# Altium integrated library Analog Devices Data Converters Digital-to-Analog Converters.IntLib: 2231 symbols (part 29 of 181)
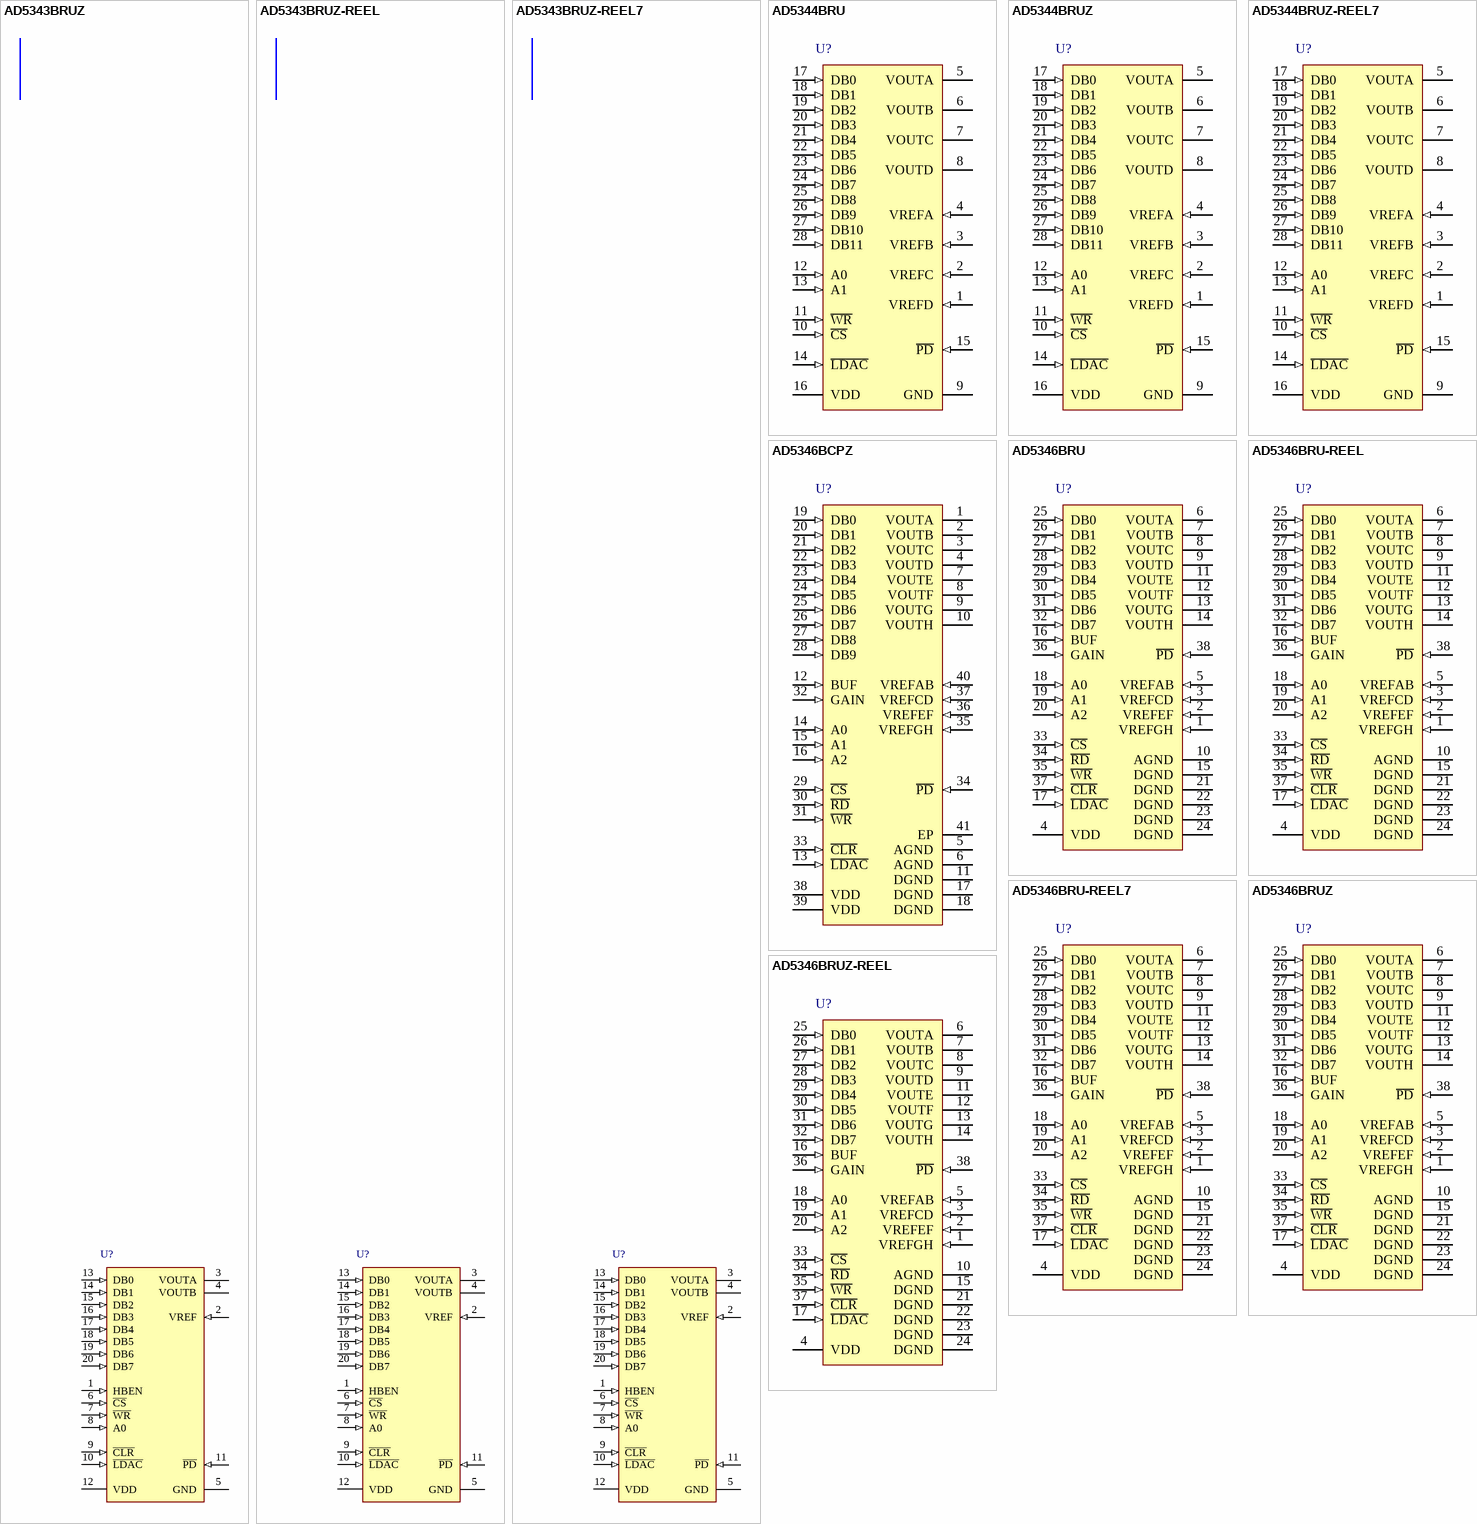
[diagram p142: symbols AD5343BRUZ to AD5346BRUZ-REEL]

## AD5343BRUZ
designator U?
Dual 12-Bit Digital-to-Analog Converter, 2.5 to 5.5 V, 230 uA, -40 to +105 degC, RU-20, Pb-Free, Tube; Generic Part Number: AD5343; Manufacturer: Analog Devices; PartNumber: AD5343BRUZ; # DAC Outputs: 2; Max V+: 5.5V; Op Pwr Diss: 2.3mW; Resolution (Bits): 12; Settling Time: 8µs; Single Supply: Yes; DatasheetVersion: Rev.0; PackageVersion: 2000; PackageReference: RU-20; PackageDescription: 20-Lead Thin Shrink Small Outline Package [TSSOP]; Supplier 1: Digi-Key; Supplier Part Number 1: AD5343BRUZ-ND; Supplier 2: Newark; Supplier Part Number 2: 59K3993; Supplier 3: Mouser; Supplier Part Number 3: 584-AD5343BRUZ; Packing: Tube; RoHS: Y; Mounting Technology: Surface Mount; Code_JEDEC: MO-153AC; ComponentLink1Description: Manufacturer URL; ComponentLink1URL: http://www.analog.com/en/index.html; ComponentLink2Description: Datasheet; ComponentLink2URL: http://www.analog.com/static/imported-files/data_sheets/AD5332_5333_5342_5343.pdf; ComponentLink3Description: Package Specification; ComponentLink3URL: http://www.analog.com/static/imported-files/packages/364515793657813558433715854054607941441RU20.pdf; ComponentLink4Description: Product URL; ComponentLink4URL: http://www.analog.com/en/digital-to-analog-converters/da-converters/ad5343/products/product.html
footprint RU-20_N (TSOP, 20-Leads, Body 6.5x4.4mm, Pitch 0.65mm, IPC Medium Density)
footprint RU-20_L (TSOP, 20-Leads, Body 6.5x4.4mm, Pitch 0.65mm, IPC High Density)
footprint RU-20_M (TSOP, 20-Leads, Body 6.5x4.4mm, Pitch 0.65mm, IPC Low Density)
pins: 1 HBEN (in) "This pin is used when writing to the device to determine if data is written to the high byte register or the low byte register.", 2 VREF (in) "Unbuffered reference input for both DACs.", 3 VOUTA (hiz) "Output of DAC A. Buffered output with rail-to-rail operation.", 4 VOUTB (hiz) "Output of DAC B. Buffered output with rail-to-rail operation.", 5 GND (power) "Ground reference point for all circuitry on the part.", 6 ~{CS} (in) "Active Low Chip Select Input. This is used in conjunction with W\R\ to write data to the parallel interface.", 7 ~{WR} (in) "Active Low Write Input. This is used in conjunction with C\S\ to write data to the parallel interface.", 8 A0 (in) "Address pin for selecting between DAC A and DAC B.", 9 ~{CLR} (in) "Asynchronous active low control input that clears all input registers and DAC registers to zeros.", 10 ~{LDAC} (in) "Active low control input that updates the DAC registers with the contents of the input registers. This allows all DAC outputs to be simultaneously updated.", 11 ~{PD} (in) "Power-Down Pin. This active low control pin puts all DACs into power-down mode.", 12 VDD (power) "Power Supply Pin. These parts can operate from 2.5 V to 5.5 V and the supply should be decoupled with a 10 uF capacitor in parallel with a 0.1 uF capacitor to GND.", 13 DB0 (in) "Parallel Data Input", 14 DB1 (in) "Parallel Data Input", 15 DB2 (in) "Parallel Data Input", 16 DB3 (in) "Parallel Data Input", 17 DB4 (in) "Parallel Data Input", 18 DB5 (in) "Parallel Data Input", 19 DB6 (in) "Parallel Data Input", 20 DB7 (in) "Parallel Data Input. DB7 is the MSB of these eight bits."

## AD5343BRUZ-REEL
designator U?
Dual 12-Bit Digital-to-Analog Converter, 2.5 to 5.5 V, 230 uA, -40 to +105 degC, RU-20, Pb-Free, Reel; Generic Part Number: AD5343; Manufacturer: Analog Devices; PartNumber: AD5343BRUZ-REEL; # DAC Outputs: 2; Max V+: 5.5V; Op Pwr Diss: 2.3mW; Resolution (Bits): 12; Settling Time: 8µs; Single Supply: Yes; DatasheetVersion: Rev.0; PackageVersion: 2000; PackageReference: RU-20; PackageDescription: 20-Lead Thin Shrink Small Outline Package [TSSOP]; Supplier 1: Digi-Key; Supplier Part Number 1: AD5343BRUZ-REEL-ND; Supplier 2: Mouser; Supplier Part Number 2: 584-AD5343BRUZ-R; Packing: Reel; RoHS: Y; Mounting Technology: Surface Mount; Code_JEDEC: MO-153AC; ComponentLink1Description: Manufacturer URL; ComponentLink1URL: http://www.analog.com/en/index.html; ComponentLink2Description: Datasheet; ComponentLink2URL: http://www.analog.com/static/imported-files/data_sheets/AD5332_5333_5342_5343.pdf; ComponentLink3Description: Package Specification; ComponentLink3URL: http://www.analog.com/static/imported-files/packages/364515793657813558433715854054607941441RU20.pdf; ComponentLink4Description: Product URL; ComponentLink4URL: http://www.analog.com/en/digital-to-analog-converters/da-converters/ad5343/products/product.html
footprint RU-20_N (TSOP, 20-Leads, Body 6.5x4.4mm, Pitch 0.65mm, IPC Medium Density)
footprint RU-20_L (TSOP, 20-Leads, Body 6.5x4.4mm, Pitch 0.65mm, IPC High Density)
footprint RU-20_M (TSOP, 20-Leads, Body 6.5x4.4mm, Pitch 0.65mm, IPC Low Density)
pins: 1 HBEN (in) "This pin is used when writing to the device to determine if data is written to the high byte register or the low byte register.", 2 VREF (in) "Unbuffered reference input for both DACs.", 3 VOUTA (hiz) "Output of DAC A. Buffered output with rail-to-rail operation.", 4 VOUTB (hiz) "Output of DAC B. Buffered output with rail-to-rail operation.", 5 GND (power) "Ground reference point for all circuitry on the part.", 6 ~{CS} (in) "Active Low Chip Select Input. This is used in conjunction with W\R\ to write data to the parallel interface.", 7 ~{WR} (in) "Active Low Write Input. This is used in conjunction with C\S\ to write data to the parallel interface.", 8 A0 (in) "Address pin for selecting between DAC A and DAC B.", 9 ~{CLR} (in) "Asynchronous active low control input that clears all input registers and DAC registers to zeros.", 10 ~{LDAC} (in) "Active low control input that updates the DAC registers with the contents of the input registers. This allows all DAC outputs to be simultaneously updated.", 11 ~{PD} (in) "Power-Down Pin. This active low control pin puts all DACs into power-down mode.", 12 VDD (power) "Power Supply Pin. These parts can operate from 2.5 V to 5.5 V and the supply should be decoupled with a 10 uF capacitor in parallel with a 0.1 uF capacitor to GND.", 13 DB0 (in) "Parallel Data Input", 14 DB1 (in) "Parallel Data Input", 15 DB2 (in) "Parallel Data Input", 16 DB3 (in) "Parallel Data Input", 17 DB4 (in) "Parallel Data Input", 18 DB5 (in) "Parallel Data Input", 19 DB6 (in) "Parallel Data Input", 20 DB7 (in) "Parallel Data Input. DB7 is the MSB of these eight bits."

## AD5343BRUZ-REEL7
designator U?
Dual 12-Bit Digital-to-Analog Converter, 2.5 to 5.5 V, 230 uA, -40 to +105 degC, RU-20, Pb-Free, Reel; Generic Part Number: AD5343; Manufacturer: Analog Devices; PartNumber: AD5343BRUZ-REEL7; # DAC Outputs: 2; Max V+: 5.5V; Op Pwr Diss: 2.3mW; Resolution (Bits): 12; Settling Time: 8µs; Single Supply: Yes; DatasheetVersion: Rev.0; PackageVersion: 2000; PackageReference: RU-20; PackageDescription: 20-Lead Thin Shrink Small Outline Package [TSSOP]; Supplier 1: Digi-Key; Supplier Part Number 1: AD5343BRUZ-REEL7-ND; Supplier 2: Mouser; Supplier Part Number 2: 584-AD5343BRUZ-R7; Packing: Reel; RoHS: Y; Mounting Technology: Surface Mount; Code_JEDEC: MO-153AC; ComponentLink1Description: Manufacturer URL; ComponentLink1URL: http://www.analog.com/en/index.html; ComponentLink2Description: Datasheet; ComponentLink2URL: http://www.analog.com/static/imported-files/data_sheets/AD5332_5333_5342_5343.pdf; ComponentLink3Description: Package Specification; ComponentLink3URL: http://www.analog.com/static/imported-files/packages/364515793657813558433715854054607941441RU20.pdf; ComponentLink4Description: Product URL; ComponentLink4URL: http://www.analog.com/en/digital-to-analog-converters/da-converters/ad5343/products/product.html
footprint RU-20_N (TSOP, 20-Leads, Body 6.5x4.4mm, Pitch 0.65mm, IPC Medium Density)
footprint RU-20_L (TSOP, 20-Leads, Body 6.5x4.4mm, Pitch 0.65mm, IPC High Density)
footprint RU-20_M (TSOP, 20-Leads, Body 6.5x4.4mm, Pitch 0.65mm, IPC Low Density)
pins: 1 HBEN (in) "This pin is used when writing to the device to determine if data is written to the high byte register or the low byte register.", 2 VREF (in) "Unbuffered reference input for both DACs.", 3 VOUTA (hiz) "Output of DAC A. Buffered output with rail-to-rail operation.", 4 VOUTB (hiz) "Output of DAC B. Buffered output with rail-to-rail operation.", 5 GND (power) "Ground reference point for all circuitry on the part.", 6 ~{CS} (in) "Active Low Chip Select Input. This is used in conjunction with W\R\ to write data to the parallel interface.", 7 ~{WR} (in) "Active Low Write Input. This is used in conjunction with C\S\ to write data to the parallel interface.", 8 A0 (in) "Address pin for selecting between DAC A and DAC B.", 9 ~{CLR} (in) "Asynchronous active low control input that clears all input registers and DAC registers to zeros.", 10 ~{LDAC} (in) "Active low control input that updates the DAC registers with the contents of the input registers. This allows all DAC outputs to be simultaneously updated.", 11 ~{PD} (in) "Power-Down Pin. This active low control pin puts all DACs into power-down mode.", 12 VDD (power) "Power Supply Pin. These parts can operate from 2.5 V to 5.5 V and the supply should be decoupled with a 10 uF capacitor in parallel with a 0.1 uF capacitor to GND.", 13 DB0 (in) "Parallel Data Input", 14 DB1 (in) "Parallel Data Input", 15 DB2 (in) "Parallel Data Input", 16 DB3 (in) "Parallel Data Input", 17 DB4 (in) "Parallel Data Input", 18 DB5 (in) "Parallel Data Input", 19 DB6 (in) "Parallel Data Input", 20 DB7 (in) "Parallel Data Input. DB7 is the MSB of these eight bits."

## AD5344BRU
designator U?
Quad 12-Bit Digital-to-Analog Converter, 2.5 to 5.5 V, -40 to +105 degC, RU-28, Tube; Generic Part Number: AD5344; Manufacturer: Analog Devices; PartNumber: AD5344BRU; # DAC Outputs: 4; Max V+: 5.5V; Op Pwr Diss: 4.5mW; Resolution (Bits): 12; Settling Time: 8µs; Single Supply: Yes; DatasheetVersion: Rev.0; PackageVersion: 2005; PackageReference: RU-28; PackageDescription: 28-Lead Thin Shrink Small Outline Package [TSSOP]; Supplier 1: Digi-Key; Supplier Part Number 1: AD5344BRU-ND; Supplier 2: Mouser; Supplier Part Number 2: 584-AD5344BRU; Packing: Tube; RoHS: N; Mounting Technology: Surface Mount; Code_JEDEC: MO-153-AE; ComponentLink1Description: Manufacturer URL; ComponentLink1URL: http://www.analog.com/en/index.html; ComponentLink2Description: Datasheet; ComponentLink2URL: http://www.analog.com/static/imported-files/data_sheets/AD5334_5335_5336_5344.pdf; ComponentLink3Description: Package Specification; ComponentLink3URL: http://www.analog.com/static/imported-files/packages/249854663RU_28.pdf; ComponentLink4Description: Product URL; ComponentLink4URL: http://www.analog.com/en/digital-to-analog-converters/da-converters/ad5344/products/product.html
footprint RU-28_N (TSOP, 28-Leads, Body 9.7x4.4mm, Pitch 0.65mm, IPC Medium Density)
footprint RU-28_L (TSOP, 28-Leads, Body 9.7x4.4mm, Pitch 0.65mm, IPC High Density)
footprint RU-28_M (TSOP, 28-Leads, Body 9.7x4.4mm, Pitch 0.65mm, IPC Low Density)
pins: 1 VREFD (in) "Unbuffered Reference Input for DAC D.", 2 VREFC (in) "Unbuffered Reference Input for DAC C.", 3 VREFB (in) "Unbuffered Reference Input for DAC B.", 4 VREFA (in) "Unbuffered Reference Input for DAC A.", 5 VOUTA (hiz) "Output of DAC A. Buffered output with rail-to-rail operation.", 6 VOUTB (hiz) "Output of DAC B. Buffered output with rail-to-rail operation.", 7 VOUTC (hiz) "Output of DAC C. Buffered output with rail-to-rail operation.", 8 VOUTD (hiz) "Output of DAC D. Buffered output with rail-to-rail operation.", 9 GND (power) "Ground Reference Point for All Circuitry on the Part.", 10 ~{CS} (in) "Active Low Chip Select Input. This is used in conjunction with W\R\ to write data to the parallel interface.", 11 ~{WR} (in) "Active Low Write Input. This is used in conjunction with C\S\ to write data to the parallel interface.", 12 A0 (in) "LSB Address Pin for Selecting which DAC Is to Be Written to.", 13 A1 (in) "MSB Address Pin for Selecting which DAC Is to Be Written to.", 14 ~{LDAC} (in) "Active low control input that updates the DAC registers with the contents of the input registers. This allows all DAC outputs to be simultaneously updated.", 15 ~{PD} (in) "Power-Down Pin. This active low control pin puts all DACs into power-down mode.", 16 VDD (power) "Power Supply Pin. These parts can operate from 2.5 V to 5.5 V and the supply should be decoupled with a 10 uF capacitor in parallel with a 0.1 uF capacitor to GND.", 17 DB0 (in) "Parallel Data Input.", 18 DB1 (in) "Parallel Data Input.", 19 DB2 (in) "Parallel Data Input.", 20 DB3 (in) "Parallel Data Input.", 21 DB4 (in) "Parallel Data Input.", 22 DB5 (in) "Parallel Data Input.", 23 DB6 (in) "Parallel Data Input.", 24 DB7 (in) "Parallel Data Input.", 25 DB8 (in) "Parallel Data Input.", 26 DB9 (in) "Parallel Data Input.", 27 DB10 (in) "Parallel Data Input.", 28 DB11 (in) "Parallel Data Input. DB11 is the MSB of these 12 bits."

## AD5344BRUZ
designator U?
Quad 12-Bit Digital-to-Analog Converter, 2.5 to 5.5 V, -40 to +105 degC, RU-28, Pb-Free, Tube; Generic Part Number: AD5344; Manufacturer: Analog Devices; PartNumber: AD5344BRUZ; # DAC Outputs: 4; Max V+: 5.5V; Op Pwr Diss: 4.5mW; Resolution (Bits): 12; Settling Time: 8µs; Single Supply: Yes; DatasheetVersion: Rev.0; PackageVersion: 2005; PackageReference: RU-28; PackageDescription: 28-Lead Thin Shrink Small Outline Package [TSSOP]; Supplier 1: Digi-Key; Supplier Part Number 1: AD5344BRUZ-ND; Supplier 2: Farnell; Supplier Part Number 2: 9604200; Supplier 3: Newark; Supplier Part Number 3: 19M0818; Supplier 4: Mouser; Supplier Part Number 4: 584-AD5344BRUZ; Packing: Tube; RoHS: Y; Mounting Technology: Surface Mount; Code_JEDEC: MO-153-AE; ComponentLink1Description: Manufacturer URL; ComponentLink1URL: http://www.analog.com/en/index.html; ComponentLink2Description: Datasheet; ComponentLink2URL: http://www.analog.com/static/imported-files/data_sheets/AD5334_5335_5336_5344.pdf; ComponentLink3Description: Package Specification; ComponentLink3URL: http://www.analog.com/static/imported-files/packages/249854663RU_28.pdf; ComponentLink4Description: Product URL; ComponentLink4URL: http://www.analog.com/en/digital-to-analog-converters/da-converters/ad5344/products/product.html
footprint RU-28_N (TSOP, 28-Leads, Body 9.7x4.4mm, Pitch 0.65mm, IPC Medium Density)
footprint RU-28_L (TSOP, 28-Leads, Body 9.7x4.4mm, Pitch 0.65mm, IPC High Density)
footprint RU-28_M (TSOP, 28-Leads, Body 9.7x4.4mm, Pitch 0.65mm, IPC Low Density)
pins: 1 VREFD (in) "Unbuffered Reference Input for DAC D.", 2 VREFC (in) "Unbuffered Reference Input for DAC C.", 3 VREFB (in) "Unbuffered Reference Input for DAC B.", 4 VREFA (in) "Unbuffered Reference Input for DAC A.", 5 VOUTA (hiz) "Output of DAC A. Buffered output with rail-to-rail operation.", 6 VOUTB (hiz) "Output of DAC B. Buffered output with rail-to-rail operation.", 7 VOUTC (hiz) "Output of DAC C. Buffered output with rail-to-rail operation.", 8 VOUTD (hiz) "Output of DAC D. Buffered output with rail-to-rail operation.", 9 GND (power) "Ground Reference Point for All Circuitry on the Part.", 10 ~{CS} (in) "Active Low Chip Select Input. This is used in conjunction with W\R\ to write data to the parallel interface.", 11 ~{WR} (in) "Active Low Write Input. This is used in conjunction with C\S\ to write data to the parallel interface.", 12 A0 (in) "LSB Address Pin for Selecting which DAC Is to Be Written to.", 13 A1 (in) "MSB Address Pin for Selecting which DAC Is to Be Written to.", 14 ~{LDAC} (in) "Active low control input that updates the DAC registers with the contents of the input registers. This allows all DAC outputs to be simultaneously updated.", 15 ~{PD} (in) "Power-Down Pin. This active low control pin puts all DACs into power-down mode.", 16 VDD (power) "Power Supply Pin. These parts can operate from 2.5 V to 5.5 V and the supply should be decoupled with a 10 uF capacitor in parallel with a 0.1 uF capacitor to GND.", 17 DB0 (in) "Parallel Data Input.", 18 DB1 (in) "Parallel Data Input.", 19 DB2 (in) "Parallel Data Input.", 20 DB3 (in) "Parallel Data Input.", 21 DB4 (in) "Parallel Data Input.", 22 DB5 (in) "Parallel Data Input.", 23 DB6 (in) "Parallel Data Input.", 24 DB7 (in) "Parallel Data Input.", 25 DB8 (in) "Parallel Data Input.", 26 DB9 (in) "Parallel Data Input.", 27 DB10 (in) "Parallel Data Input.", 28 DB11 (in) "Parallel Data Input. DB11 is the MSB of these 12 bits."

## AD5344BRUZ-REEL7
designator U?
Quad 12-Bit Digital-to-Analog Converter, 2.5 to 5.5 V, -40 to +105 degC, RU-28, Pb-Free, Reel; Generic Part Number: AD5344; Manufacturer: Analog Devices; PartNumber: AD5344BRUZ-REEL7; # DAC Outputs: 4; Max V+: 5.5V; Op Pwr Diss: 4.5mW; Resolution (Bits): 12; Settling Time: 8µs; Single Supply: Yes; DatasheetVersion: Rev.0; PackageVersion: 2005; PackageReference: RU-28; PackageDescription: 28-Lead Thin Shrink Small Outline Package [TSSOP]; Supplier 1: Digi-Key; Supplier Part Number 1: AD5344BRUZ-REEL7-ND; Supplier 2: Mouser; Supplier Part Number 2: 584-AD5344BRUZ-R7; Packing: Reel; RoHS: Y; Mounting Technology: Surface Mount; Code_JEDEC: MO-153-AE; ComponentLink1Description: Manufacturer URL; ComponentLink1URL: http://www.analog.com/en/index.html; ComponentLink2Description: Datasheet; ComponentLink2URL: http://www.analog.com/static/imported-files/data_sheets/AD5334_5335_5336_5344.pdf; ComponentLink3Description: Package Specification; ComponentLink3URL: http://www.analog.com/static/imported-files/packages/249854663RU_28.pdf; ComponentLink4Description: Product URL; ComponentLink4URL: http://www.analog.com/en/digital-to-analog-converters/da-converters/ad5344/products/product.html
footprint RU-28_N (TSOP, 28-Leads, Body 9.7x4.4mm, Pitch 0.65mm, IPC Medium Density)
footprint RU-28_L (TSOP, 28-Leads, Body 9.7x4.4mm, Pitch 0.65mm, IPC High Density)
footprint RU-28_M (TSOP, 28-Leads, Body 9.7x4.4mm, Pitch 0.65mm, IPC Low Density)
pins: 1 VREFD (in) "Unbuffered Reference Input for DAC D.", 2 VREFC (in) "Unbuffered Reference Input for DAC C.", 3 VREFB (in) "Unbuffered Reference Input for DAC B.", 4 VREFA (in) "Unbuffered Reference Input for DAC A.", 5 VOUTA (hiz) "Output of DAC A. Buffered output with rail-to-rail operation.", 6 VOUTB (hiz) "Output of DAC B. Buffered output with rail-to-rail operation.", 7 VOUTC (hiz) "Output of DAC C. Buffered output with rail-to-rail operation.", 8 VOUTD (hiz) "Output of DAC D. Buffered output with rail-to-rail operation.", 9 GND (power) "Ground Reference Point for All Circuitry on the Part.", 10 ~{CS} (in) "Active Low Chip Select Input. This is used in conjunction with W\R\ to write data to the parallel interface.", 11 ~{WR} (in) "Active Low Write Input. This is used in conjunction with C\S\ to write data to the parallel interface.", 12 A0 (in) "LSB Address Pin for Selecting which DAC Is to Be Written to.", 13 A1 (in) "MSB Address Pin for Selecting which DAC Is to Be Written to.", 14 ~{LDAC} (in) "Active low control input that updates the DAC registers with the contents of the input registers. This allows all DAC outputs to be simultaneously updated.", 15 ~{PD} (in) "Power-Down Pin. This active low control pin puts all DACs into power-down mode.", 16 VDD (power) "Power Supply Pin. These parts can operate from 2.5 V to 5.5 V and the supply should be decoupled with a 10 uF capacitor in parallel with a 0.1 uF capacitor to GND.", 17 DB0 (in) "Parallel Data Input.", 18 DB1 (in) "Parallel Data Input.", 19 DB2 (in) "Parallel Data Input.", 20 DB3 (in) "Parallel Data Input.", 21 DB4 (in) "Parallel Data Input.", 22 DB5 (in) "Parallel Data Input.", 23 DB6 (in) "Parallel Data Input.", 24 DB7 (in) "Parallel Data Input.", 25 DB8 (in) "Parallel Data Input.", 26 DB9 (in) "Parallel Data Input.", 27 DB10 (in) "Parallel Data Input.", 28 DB11 (in) "Parallel Data Input. DB11 is the MSB of these 12 bits."

## AD5346BCPZ
designator U?
Octal 8-Bit Voltage Output Digital-to-Analog Converter, 2.5 to 5.5 V, -40 to +105 degC, CP-40-1, Pb-Free, Tray; Generic Part Number: AD5346; Manufacturer: Analog Devices; PartNumber: AD5346BCPZ; # DAC Outputs: 8; Max V+: 5.5V; Op Pwr Diss: 8.3mW; Settling Time: 6µs; Single Supply: Yes; DatasheetVersion: Rev.0; PackageVersion: Oct-2006; PackageReference: CP-40-1; PackageDescription: 40-Pin Lead Frame Chip Scale Package [LFCSP_VQ] Very Thin Quad; Supplier 1: Digi-Key; Supplier Part Number 1: AD5346BCPZ-ND; Supplier 2: Mouser; Supplier Part Number 2: 584-AD5346BCPZ; Packing: Tray; Resolution (Bits): 8; RoHS: Y; Mounting Technology: Surface Mount; Code_JEDEC: MO-220-VJJD-2; ComponentLink1Description: Manufacturer URL; ComponentLink1URL: http://www.analog.com/en/index.html; ComponentLink2Description: Datasheet; ComponentLink2URL: http://www.analog.com/static/imported-files/data_sheets/AD5346_5347_5348.pdf; ComponentLink3Description: Package Specification; ComponentLink3URL: http://www.analog.com/static/imported-files/packages/PKG_PDF/LFCSP(CP)/CP_40_1.pdf; ComponentLink4Description: Product URL; ComponentLink4URL: http://www.analog.com/en/digital-to-analog-converters/da-converters/ad5346/products/product.html
footprint CP-40-1_N (QFN, 40-Leads, Body 6x6mm, Pitch 0.5mm, Thermal Pad 4.3x4.3mm, IPC Medium Density)
footprint CP-40-1_L (QFN, 40-Leads, Body 6x6mm, Pitch 0.5mm, Thermal Pad 4.3x4.3mm, IPC High Density)
footprint CP-40-1_M (QFN, 40-Leads, Body 6x6mm, Pitch 0.5mm, Thermal Pad 4.3x4.3mm, IPC Low Density)
pins: 1 VOUTA (hiz) "Output of DAC A. Buffered output with rail-to-rail operation.", 2 VOUTB (hiz) "Output of DAC B. Buffered output with rail-to-rail operation.", 3 VOUTC (hiz) "Output of DAC C. Buffered output with rail-to-rail operation.", 4 VOUTD (hiz) "Output of DAC D. Buffered output with rail-to-rail operation.", 5 AGND (power) "Analog Ground. Ground reference for analog circuitry.", 6 AGND (power) "Analog Ground. Ground reference for analog circuitry.", 7 VOUTE (hiz) "Output of DAC E. Buffered output with rail-to-rail operation.", 8 VOUTF (hiz) "Output of DAC F. Buffered output with rail-to-rail operation.", 9 VOUTG (hiz) "Output of DAC G. Buffered output with rail-to-rail operation.", 10 VOUTH (hiz) "Output of DAC H. Buffered output with rail-to-rail operation.", 11 DGND (power) "Digital Ground. Ground reference for digital circuitry.", 12 BUF (in) "Buffer Control Pin. Controls whether the reference input to the DAC is buffered or unbuffered.", 13 ~{LDAC} (in) "Active Low Control Input. Updates the DAC registers with the contents of the input registers, which allows all DAC outputs to be simultaneously updated.", 14 A0 (in) "LSB Address Pin. Selects which DAC is to be written to.", 15 A1 (in) "Address Pin. Selects which DAC is to be written to.", 16 A2 (in) "MSB Address Pin. Selects which DAC is to be written to.", 17 DGND (power) "Digital Ground. Ground reference for digital circuitry.", 18 DGND (power) "Digital Ground. Ground reference for digital circuitry.", 19 DB0 (in) "Parallel Data Input.", 20 DB1 (in) "Parallel Data Input.", 21 DB2 (in) "Parallel Data Input.", 22 DB3 (in) "Parallel Data Input.", 23 DB4 (in) "Parallel Data Input.", 24 DB5 (in) "Parallel Data Input.", 25 DB6 (in) "Parallel Data Input.", 26 DB7 (in) "Parallel Data Input.", 27 DB8 (in) "Parallel Data Input.", 28 DB9 (in) "Parallel Data Inputs. DB9 Is the MSB of these ten bits.", 29 ~{CS} (in) "Active Low Chip Select Input. Used in conjunction with W\R\ to write data to the parallel interface, or with R\D\ to read back data from a DAC.", 30 ~{RD} (in) "Active Low Read Input. Used in conjunction with C\S\ to read data back from the internal DACs.", 31 ~{WR} (in) "Active Low Write Input. Used in conjunction with C\S\ to write data to the parallel interface.", 32 GAIN (in) "Gain Control Pin. Controls whether the output range from the DAC is 0 V to VREF or 0 V to 2 x VREF.", 33 ~{CLR} (in) "Asynchronous Active Low Control Input. Clears all input registers and DAC registers to zeros.", 34 ~{PD} (in) "Power-Down Pin. This active low control pin puts all DACs into power-down mode.", 35 VREFGH (in) "Reference Input for DACs G and H.", 36 VREFEF (in) "Reference Input for DACs E and F.", 37 VREFCD (in) "Reference Input for DACs C and D.", 38 VDD (power) "Power Supply Pin. This part can operate from 2.5 V to 5.5 V, and the supply should be decoupled with a 10 uF capacitor in parallel with a 0.1 uF capacitor to GND. Both VDD pins on the LFCSP package must be at the same (See Datasheet)", 39 VDD (power) "Power Supply Pin. This part can operate from 2.5 V to 5.5 V, and the supply should be decoupled with a 10 uF capacitor in parallel with a 0.1 uF capacitor to GND. Both VDD pins on the LFCSP package must be at the same (See Datasheet)", 40 VREFAB (in) "Reference Input for DACs A and B.", 41 EP "Exposed Pad"

## AD5346BRU
designator U?
Octal 8-Bit Voltage Output Digital-to-Analog Converter, 2.5 to 5.5 V, -40 to +105 degC, RU-38, Tube; Generic Part Number: AD5346; Manufacturer: Analog Devices; PartNumber: AD5346BRU; # DAC Outputs: 8; Max V+: 5.5V; Op Pwr Diss: 8.3mW; Settling Time: 6µs; Single Supply: Yes; DatasheetVersion: Rev.0; PackageVersion: Mar-2003; PackageReference: RU-38; PackageDescription: 38-Lead Thin Shrink Small Outline Package [TSSOP]; Supplier 1: Digi-Key; Supplier Part Number 1: AD5346BRU-ND; Supplier 2: Farnell; Supplier Part Number 2: 8396868; Supplier 3: Mouser; Supplier Part Number 3: 584-AD5346BRU; Packing: Tube; Resolution (Bits): 8; RoHS: N; Mounting Technology: Surface Mount; Code_JEDEC: MS-153BD-1; ComponentLink1Description: Manufacturer URL; ComponentLink1URL: http://www.analog.com/en/index.html; ComponentLink2Description: Datasheet; ComponentLink2URL: http://www.analog.com/static/imported-files/data_sheets/AD5346_5347_5348.pdf; ComponentLink3Description: Package Specification; ComponentLink3URL: http://www.analog.com/static/imported-files/packages/36817415413609854197792024125RU38.pdf; ComponentLink4Description: Product URL; ComponentLink4URL: http://www.analog.com/en/digital-to-analog-converters/da-converters/ad5346/products/product.html
footprint RU-38_N (TSSOP, 38-Leads, Body 9.7x4.4mm, Pitch 0.5mm, IPC Medium Density)
footprint RU-38_L (TSSOP, 38-Leads, Body 9.7x4.4mm, Pitch 0.5mm, IPC High Density)
footprint RU-38_M (TSSOP, 38-Leads, Body 9.7x4.4mm, Pitch 0.5mm, IPC Low Density)
pins: 1 VREFGH (in) "Reference Input for DACs G and H.", 2 VREFEF (in) "Reference Input for DACs E and F.", 3 VREFCD (in) "Reference Input for DACs C and D.", 4 VDD (power) "Power Supply Pin(s). This part can operate from 2.5 V to 5.5 V, and the supply should be decoupled with a 10 uF capacitor in parallel with a 0.1 uF capacitor to GND.", 5 VREFAB (in) "Reference Input for DACs A and B.", 6 VOUTA (hiz) "Output of DAC A. Buffered output with rail-to-rail operation.", 7 VOUTB (hiz) "Output of DAC B. Buffered output with rail-to-rail operation.", 8 VOUTC (hiz) "Output of DAC C. Buffered output with rail-to-rail operation.", 9 VOUTD (hiz) "Output of DAC D. Buffered output with rail-to-rail operation.", 10 AGND (power) "Analog Ground. Ground reference for analog circuitry.", 11 VOUTE (hiz) "Output of DAC E. Buffered output with rail-to-rail operation.", 12 VOUTF (hiz) "Output of DAC F. Buffered output with rail-to-rail operation.", 13 VOUTG (hiz) "Output of DAC G. Buffered output with rail-to-rail operation.", 14 VOUTH (hiz) "Output of DAC H. Buffered output with rail-to-rail operation.", 15 DGND (power) "Digital Ground. Ground reference for digital circuitry.", 16 BUF (in) "Buffer Control Pin. Controls whether the reference input to the DAC is buffered or unbuffered.", 17 ~{LDAC} (in) "Active Low Control Input. Updates the DAC registers with the contents of the input registers, which allows all DAC outputs to be simultaneously updated.", 18 A0 (in) "LSB Address Pin. Selects which DAC is to be written to.", 19 A1 (in) "Address Pin. Selects which DAC is to be written to.", 20 A2 (in) "MSB Address Pin. Selects which DAC is to be written to.", 21 DGND (power) "Digital Ground. Ground reference for digital circuitry.", 22 DGND (power) "Digital Ground. Ground reference for digital circuitry.", 23 DGND (power) "Digital Ground. Ground reference for digital circuitry.", 24 DGND (power) "Digital Ground. Ground reference for digital circuitry.", 25 DB0 (in) "Eight Parallel Data Inputs.", 26 DB1 (in) "Eight Parallel Data Inputs.", 27 DB2 (in) "Eight Parallel Data Inputs.", 28 DB3 (in) "Eight Parallel Data Inputs.", 29 DB4 (in) "Eight Parallel Data Inputs.", 30 DB5 (in) "Eight Parallel Data Inputs.", 31 DB6 (in) "Eight Parallel Data Inputs.", 32 DB7 (in) "Eight Parallel Data Inputs. DB7 is the MSB of these eight bits.", 33 ~{CS} (in) "Active Low Chip Select Input. Used in conjunction with W\R\ to write data to the parallel interface, or with R\D\ to read back data from a DAC.", 34 ~{RD} (in) "Active Low Read Input. Used in conjunction with C\S\ to read data back from the internal DACs.", 35 ~{WR} (in) "Active Low Write Input. Used in conjunction with C\S\ to write data to the parallel interface.", 36 GAIN (in) "Gain Control Pin. Controls whether the output range from the DAC is 0 V to VREF or 0 V to 2 x VREF.", 37 ~{CLR} (in) "Asynchronous Active Low Control Input. Clears all input registers and DAC registers to zeros.", 38 ~{PD} (in) "Power-Down Pin. This active low control pin puts all DACs into power-down mode."

## AD5346BRU-REEL
designator U?
Octal 8-Bit Voltage Output Digital-to-Analog Converter, 2.5 to 5.5 V, -40 to +105 degC, RU-38, Reel; Generic Part Number: AD5346; Manufacturer: Analog Devices; PartNumber: AD5346BRU-REEL; # DAC Outputs: 8; Max V+: 5.5V; Op Pwr Diss: 8.3mW; Settling Time: 6µs; Single Supply: Yes; DatasheetVersion: Rev.0; PackageVersion: Mar-2003; PackageReference: RU-38; PackageDescription: 38-Lead Thin Shrink Small Outline Package [TSSOP]; Supplier 1: Digi-Key; Supplier Part Number 1: AD5346BRU-REEL-ND; Supplier 2: Mouser; Supplier Part Number 2: 584-AD5346BRU-R; Packing: Reel; Resolution (Bits): 8; RoHS: N; Mounting Technology: Surface Mount; Code_JEDEC: MS-153BD-1; ComponentLink1Description: Manufacturer URL; ComponentLink1URL: http://www.analog.com/en/index.html; ComponentLink2Description: Datasheet; ComponentLink2URL: http://www.analog.com/static/imported-files/data_sheets/AD5346_5347_5348.pdf; ComponentLink3Description: Package Specification; ComponentLink3URL: http://www.analog.com/static/imported-files/packages/36817415413609854197792024125RU38.pdf; ComponentLink4Description: Product URL; ComponentLink4URL: http://www.analog.com/en/digital-to-analog-converters/da-converters/ad5346/products/product.html
footprint RU-38_N (TSSOP, 38-Leads, Body 9.7x4.4mm, Pitch 0.5mm, IPC Medium Density)
footprint RU-38_L (TSSOP, 38-Leads, Body 9.7x4.4mm, Pitch 0.5mm, IPC High Density)
footprint RU-38_M (TSSOP, 38-Leads, Body 9.7x4.4mm, Pitch 0.5mm, IPC Low Density)
pins: 1 VREFGH (in) "Reference Input for DACs G and H.", 2 VREFEF (in) "Reference Input for DACs E and F.", 3 VREFCD (in) "Reference Input for DACs C and D.", 4 VDD (power) "Power Supply Pin(s). This part can operate from 2.5 V to 5.5 V, and the supply should be decoupled with a 10 uF capacitor in parallel with a 0.1 uF capacitor to GND.", 5 VREFAB (in) "Reference Input for DACs A and B.", 6 VOUTA (hiz) "Output of DAC A. Buffered output with rail-to-rail operation.", 7 VOUTB (hiz) "Output of DAC B. Buffered output with rail-to-rail operation.", 8 VOUTC (hiz) "Output of DAC C. Buffered output with rail-to-rail operation.", 9 VOUTD (hiz) "Output of DAC D. Buffered output with rail-to-rail operation.", 10 AGND (power) "Analog Ground. Ground reference for analog circuitry.", 11 VOUTE (hiz) "Output of DAC E. Buffered output with rail-to-rail operation.", 12 VOUTF (hiz) "Output of DAC F. Buffered output with rail-to-rail operation.", 13 VOUTG (hiz) "Output of DAC G. Buffered output with rail-to-rail operation.", 14 VOUTH (hiz) "Output of DAC H. Buffered output with rail-to-rail operation.", 15 DGND (power) "Digital Ground. Ground reference for digital circuitry.", 16 BUF (in) "Buffer Control Pin. Controls whether the reference input to the DAC is buffered or unbuffered.", 17 ~{LDAC} (in) "Active Low Control Input. Updates the DAC registers with the contents of the input registers, which allows all DAC outputs to be simultaneously updated.", 18 A0 (in) "LSB Address Pin. Selects which DAC is to be written to.", 19 A1 (in) "Address Pin. Selects which DAC is to be written to.", 20 A2 (in) "MSB Address Pin. Selects which DAC is to be written to.", 21 DGND (power) "Digital Ground. Ground reference for digital circuitry.", 22 DGND (power) "Digital Ground. Ground reference for digital circuitry.", 23 DGND (power) "Digital Ground. Ground reference for digital circuitry.", 24 DGND (power) "Digital Ground. Ground reference for digital circuitry.", 25 DB0 (in) "Eight Parallel Data Inputs.", 26 DB1 (in) "Eight Parallel Data Inputs.", 27 DB2 (in) "Eight Parallel Data Inputs.", 28 DB3 (in) "Eight Parallel Data Inputs.", 29 DB4 (in) "Eight Parallel Data Inputs.", 30 DB5 (in) "Eight Parallel Data Inputs.", 31 DB6 (in) "Eight Parallel Data Inputs.", 32 DB7 (in) "Eight Parallel Data Inputs. DB7 is the MSB of these eight bits.", 33 ~{CS} (in) "Active Low Chip Select Input. Used in conjunction with W\R\ to write data to the parallel interface, or with R\D\ to read back data from a DAC.", 34 ~{RD} (in) "Active Low Read Input. Used in conjunction with C\S\ to read data back from the internal DACs.", 35 ~{WR} (in) "Active Low Write Input. Used in conjunction with C\S\ to write data to the parallel interface.", 36 GAIN (in) "Gain Control Pin. Controls whether the output range from the DAC is 0 V to VREF or 0 V to 2 x VREF.", 37 ~{CLR} (in) "Asynchronous Active Low Control Input. Clears all input registers and DAC registers to zeros.", 38 ~{PD} (in) "Power-Down Pin. This active low control pin puts all DACs into power-down mode."

## AD5346BRU-REEL7
designator U?
Octal 8-Bit Voltage Output Digital-to-Analog Converter, 2.5 to 5.5 V, -40 to +105 degC, RU-38, Reel; Generic Part Number: AD5346; Manufacturer: Analog Devices; PartNumber: AD5346BRU-REEL7; # DAC Outputs: 8; Max V+: 5.5V; Op Pwr Diss: 8.3mW; Settling Time: 6µs; Single Supply: Yes; DatasheetVersion: Rev.0; PackageVersion: Mar-2003; PackageReference: RU-38; PackageDescription: 38-Lead Thin Shrink Small Outline Package [TSSOP]; Supplier 1: Digi-Key; Supplier Part Number 1: AD5346BRU-REEL7-ND; Supplier 2: Mouser; Supplier Part Number 2: 584-AD5346BRU-R7; Packing: Reel; Resolution (Bits): 8; RoHS: N; Mounting Technology: Surface Mount; Code_JEDEC: MS-153BD-1; ComponentLink1Description: Manufacturer URL; ComponentLink1URL: http://www.analog.com/en/index.html; ComponentLink2Description: Datasheet; ComponentLink2URL: http://www.analog.com/static/imported-files/data_sheets/AD5346_5347_5348.pdf; ComponentLink3Description: Package Specification; ComponentLink3URL: http://www.analog.com/static/imported-files/packages/36817415413609854197792024125RU38.pdf; ComponentLink4Description: Product URL; ComponentLink4URL: http://www.analog.com/en/digital-to-analog-converters/da-converters/ad5346/products/product.html
footprint RU-38_N (TSSOP, 38-Leads, Body 9.7x4.4mm, Pitch 0.5mm, IPC Medium Density)
footprint RU-38_L (TSSOP, 38-Leads, Body 9.7x4.4mm, Pitch 0.5mm, IPC High Density)
footprint RU-38_M (TSSOP, 38-Leads, Body 9.7x4.4mm, Pitch 0.5mm, IPC Low Density)
pins: 1 VREFGH (in) "Reference Input for DACs G and H.", 2 VREFEF (in) "Reference Input for DACs E and F.", 3 VREFCD (in) "Reference Input for DACs C and D.", 4 VDD (power) "Power Supply Pin(s). This part can operate from 2.5 V to 5.5 V, and the supply should be decoupled with a 10 uF capacitor in parallel with a 0.1 uF capacitor to GND.", 5 VREFAB (in) "Reference Input for DACs A and B.", 6 VOUTA (hiz) "Output of DAC A. Buffered output with rail-to-rail operation.", 7 VOUTB (hiz) "Output of DAC B. Buffered output with rail-to-rail operation.", 8 VOUTC (hiz) "Output of DAC C. Buffered output with rail-to-rail operation.", 9 VOUTD (hiz) "Output of DAC D. Buffered output with rail-to-rail operation.", 10 AGND (power) "Analog Ground. Ground reference for analog circuitry.", 11 VOUTE (hiz) "Output of DAC E. Buffered output with rail-to-rail operation.", 12 VOUTF (hiz) "Output of DAC F. Buffered output with rail-to-rail operation.", 13 VOUTG (hiz) "Output of DAC G. Buffered output with rail-to-rail operation.", 14 VOUTH (hiz) "Output of DAC H. Buffered output with rail-to-rail operation.", 15 DGND (power) "Digital Ground. Ground reference for digital circuitry.", 16 BUF (in) "Buffer Control Pin. Controls whether the reference input to the DAC is buffered or unbuffered.", 17 ~{LDAC} (in) "Active Low Control Input. Updates the DAC registers with the contents of the input registers, which allows all DAC outputs to be simultaneously updated.", 18 A0 (in) "LSB Address Pin. Selects which DAC is to be written to.", 19 A1 (in) "Address Pin. Selects which DAC is to be written to.", 20 A2 (in) "MSB Address Pin. Selects which DAC is to be written to.", 21 DGND (power) "Digital Ground. Ground reference for digital circuitry.", 22 DGND (power) "Digital Ground. Ground reference for digital circuitry.", 23 DGND (power) "Digital Ground. Ground reference for digital circuitry.", 24 DGND (power) "Digital Ground. Ground reference for digital circuitry.", 25 DB0 (in) "Eight Parallel Data Inputs.", 26 DB1 (in) "Eight Parallel Data Inputs.", 27 DB2 (in) "Eight Parallel Data Inputs.", 28 DB3 (in) "Eight Parallel Data Inputs.", 29 DB4 (in) "Eight Parallel Data Inputs.", 30 DB5 (in) "Eight Parallel Data Inputs.", 31 DB6 (in) "Eight Parallel Data Inputs.", 32 DB7 (in) "Eight Parallel Data Inputs. DB7 is the MSB of these eight bits.", 33 ~{CS} (in) "Active Low Chip Select Input. Used in conjunction with W\R\ to write data to the parallel interface, or with R\D\ to read back data from a DAC.", 34 ~{RD} (in) "Active Low Read Input. Used in conjunction with C\S\ to read data back from the internal DACs.", 35 ~{WR} (in) "Active Low Write Input. Used in conjunction with C\S\ to write data to the parallel interface.", 36 GAIN (in) "Gain Control Pin. Controls whether the output range from the DAC is 0 V to VREF or 0 V to 2 x VREF.", 37 ~{CLR} (in) "Asynchronous Active Low Control Input. Clears all input registers and DAC registers to zeros.", 38 ~{PD} (in) "Power-Down Pin. This active low control pin puts all DACs into power-down mode."

## AD5346BRUZ
designator U?
Octal 8-Bit Voltage Output Digital-to-Analog Converter, 2.5 to 5.5 V, -40 to +105 degC, RU-38, Pb-Free, Tube; Generic Part Number: AD5346; Manufacturer: Analog Devices; PartNumber: AD5346BRUZ; # DAC Outputs: 8; Max V+: 5.5V; Op Pwr Diss: 8.3mW; Settling Time: 6µs; Single Supply: Yes; DatasheetVersion: Rev.0; PackageVersion: Mar-2003; PackageReference: RU-38; PackageDescription: 38-Lead Thin Shrink Small Outline Package [TSSOP]; Supplier 1: Digi-Key; Supplier Part Number 1: AD5346BRUZ-ND; Supplier 2: Farnell; Supplier Part Number 2: 1581916; Supplier 3: Newark; Supplier Part Number 3: 15P0665; Supplier 4: Mouser; Supplier Part Number 4: 584-AD5346BRUZ; Packing: Tube; Resolution (Bits): 8; RoHS: Y; Mounting Technology: Surface Mount; Code_JEDEC: MS-153BD-1; ComponentLink1Description: Manufacturer URL; ComponentLink1URL: http://www.analog.com/en/index.html; ComponentLink2Description: Datasheet; ComponentLink2URL: http://www.analog.com/static/imported-files/data_sheets/AD5346_5347_5348.pdf; ComponentLink3Description: Package Specification; ComponentLink3URL: http://www.analog.com/static/imported-files/packages/36817415413609854197792024125RU38.pdf; ComponentLink4Description: Product URL; ComponentLink4URL: http://www.analog.com/en/digital-to-analog-converters/da-converters/ad5346/products/product.html
footprint RU-38_N (TSSOP, 38-Leads, Body 9.7x4.4mm, Pitch 0.5mm, IPC Medium Density)
footprint RU-38_L (TSSOP, 38-Leads, Body 9.7x4.4mm, Pitch 0.5mm, IPC High Density)
footprint RU-38_M (TSSOP, 38-Leads, Body 9.7x4.4mm, Pitch 0.5mm, IPC Low Density)
pins: 1 VREFGH (in) "Reference Input for DACs G and H.", 2 VREFEF (in) "Reference Input for DACs E and F.", 3 VREFCD (in) "Reference Input for DACs C and D.", 4 VDD (power) "Power Supply Pin(s). This part can operate from 2.5 V to 5.5 V, and the supply should be decoupled with a 10 uF capacitor in parallel with a 0.1 uF capacitor to GND.", 5 VREFAB (in) "Reference Input for DACs A and B.", 6 VOUTA (hiz) "Output of DAC A. Buffered output with rail-to-rail operation.", 7 VOUTB (hiz) "Output of DAC B. Buffered output with rail-to-rail operation.", 8 VOUTC (hiz) "Output of DAC C. Buffered output with rail-to-rail operation.", 9 VOUTD (hiz) "Output of DAC D. Buffered output with rail-to-rail operation.", 10 AGND (power) "Analog Ground. Ground reference for analog circuitry.", 11 VOUTE (hiz) "Output of DAC E. Buffered output with rail-to-rail operation.", 12 VOUTF (hiz) "Output of DAC F. Buffered output with rail-to-rail operation.", 13 VOUTG (hiz) "Output of DAC G. Buffered output with rail-to-rail operation.", 14 VOUTH (hiz) "Output of DAC H. Buffered output with rail-to-rail operation.", 15 DGND (power) "Digital Ground. Ground reference for digital circuitry.", 16 BUF (in) "Buffer Control Pin. Controls whether the reference input to the DAC is buffered or unbuffered.", 17 ~{LDAC} (in) "Active Low Control Input. Updates the DAC registers with the contents of the input registers, which allows all DAC outputs to be simultaneously updated.", 18 A0 (in) "LSB Address Pin. Selects which DAC is to be written to.", 19 A1 (in) "Address Pin. Selects which DAC is to be written to.", 20 A2 (in) "MSB Address Pin. Selects which DAC is to be written to.", 21 DGND (power) "Digital Ground. Ground reference for digital circuitry.", 22 DGND (power) "Digital Ground. Ground reference for digital circuitry.", 23 DGND (power) "Digital Ground. Ground reference for digital circuitry.", 24 DGND (power) "Digital Ground. Ground reference for digital circuitry.", 25 DB0 (in) "Eight Parallel Data Inputs.", 26 DB1 (in) "Eight Parallel Data Inputs.", 27 DB2 (in) "Eight Parallel Data Inputs.", 28 DB3 (in) "Eight Parallel Data Inputs.", 29 DB4 (in) "Eight Parallel Data Inputs.", 30 DB5 (in) "Eight Parallel Data Inputs.", 31 DB6 (in) "Eight Parallel Data Inputs.", 32 DB7 (in) "Eight Parallel Data Inputs. DB7 is the MSB of these eight bits.", 33 ~{CS} (in) "Active Low Chip Select Input. Used in conjunction with W\R\ to write data to the parallel interface, or with R\D\ to read back data from a DAC.", 34 ~{RD} (in) "Active Low Read Input. Used in conjunction with C\S\ to read data back from the internal DACs.", 35 ~{WR} (in) "Active Low Write Input. Used in conjunction with C\S\ to write data to the parallel interface.", 36 GAIN (in) "Gain Control Pin. Controls whether the output range from the DAC is 0 V to VREF or 0 V to 2 x VREF.", 37 ~{CLR} (in) "Asynchronous Active Low Control Input. Clears all input registers and DAC registers to zeros.", 38 ~{PD} (in) "Power-Down Pin. This active low control pin puts all DACs into power-down mode."

## AD5346BRUZ-REEL
designator U?
Octal 8-Bit Voltage Output Digital-to-Analog Converter, 2.5 to 5.5 V, -40 to +105 degC, RU-38, Pb-Free, Reel; Generic Part Number: AD5346; Manufacturer: Analog Devices; PartNumber: AD5346BRUZ-REEL; # DAC Outputs: 8; Max V+: 5.5V; Op Pwr Diss: 8.3mW; Settling Time: 6µs; Single Supply: Yes; DatasheetVersion: Rev.0; PackageVersion: Mar-2003; PackageReference: RU-38; PackageDescription: 38-Lead Thin Shrink Small Outline Package [TSSOP]; Supplier 1: Mouser; Supplier Part Number 1: N/A; Packing: Reel; Resolution (Bits): 8; RoHS: Y; Mounting Technology: Surface Mount; Code_JEDEC: MS-153BD-1; ComponentLink1Description: Manufacturer URL; ComponentLink1URL: http://www.analog.com/en/index.html; ComponentLink2Description: Datasheet; ComponentLink2URL: http://www.analog.com/static/imported-files/data_sheets/AD5346_5347_5348.pdf; ComponentLink3Description: Package Specification; ComponentLink3URL: http://www.analog.com/static/imported-files/packages/36817415413609854197792024125RU38.pdf; ComponentLink4Description: Product URL; ComponentLink4URL: http://www.analog.com/en/digital-to-analog-converters/da-converters/ad5346/products/product.html
footprint RU-38_N (TSSOP, 38-Leads, Body 9.7x4.4mm, Pitch 0.5mm, IPC Medium Density)
footprint RU-38_L (TSSOP, 38-Leads, Body 9.7x4.4mm, Pitch 0.5mm, IPC High Density)
footprint RU-38_M (TSSOP, 38-Leads, Body 9.7x4.4mm, Pitch 0.5mm, IPC Low Density)
pins: 1 VREFGH (in) "Reference Input for DACs G and H.", 2 VREFEF (in) "Reference Input for DACs E and F.", 3 VREFCD (in) "Reference Input for DACs C and D.", 4 VDD (power) "Power Supply Pin(s). This part can operate from 2.5 V to 5.5 V, and the supply should be decoupled with a 10 uF capacitor in parallel with a 0.1 uF capacitor to GND.", 5 VREFAB (in) "Reference Input for DACs A and B.", 6 VOUTA (hiz) "Output of DAC A. Buffered output with rail-to-rail operation.", 7 VOUTB (hiz) "Output of DAC B. Buffered output with rail-to-rail operation.", 8 VOUTC (hiz) "Output of DAC C. Buffered output with rail-to-rail operation.", 9 VOUTD (hiz) "Output of DAC D. Buffered output with rail-to-rail operation.", 10 AGND (power) "Analog Ground. Ground reference for analog circuitry.", 11 VOUTE (hiz) "Output of DAC E. Buffered output with rail-to-rail operation.", 12 VOUTF (hiz) "Output of DAC F. Buffered output with rail-to-rail operation.", 13 VOUTG (hiz) "Output of DAC G. Buffered output with rail-to-rail operation.", 14 VOUTH (hiz) "Output of DAC H. Buffered output with rail-to-rail operation.", 15 DGND (power) "Digital Ground. Ground reference for digital circuitry.", 16 BUF (in) "Buffer Control Pin. Controls whether the reference input to the DAC is buffered or unbuffered.", 17 ~{LDAC} (in) "Active Low Control Input. Updates the DAC registers with the contents of the input registers, which allows all DAC outputs to be simultaneously updated.", 18 A0 (in) "LSB Address Pin. Selects which DAC is to be written to.", 19 A1 (in) "Address Pin. Selects which DAC is to be written to.", 20 A2 (in) "MSB Address Pin. Selects which DAC is to be written to.", 21 DGND (power) "Digital Ground. Ground reference for digital circuitry.", 22 DGND (power) "Digital Ground. Ground reference for digital circuitry.", 23 DGND (power) "Digital Ground. Ground reference for digital circuitry.", 24 DGND (power) "Digital Ground. Ground reference for digital circuitry.", 25 DB0 (in) "Eight Parallel Data Inputs.", 26 DB1 (in) "Eight Parallel Data Inputs.", 27 DB2 (in) "Eight Parallel Data Inputs.", 28 DB3 (in) "Eight Parallel Data Inputs.", 29 DB4 (in) "Eight Parallel Data Inputs.", 30 DB5 (in) "Eight Parallel Data Inputs.", 31 DB6 (in) "Eight Parallel Data Inputs.", 32 DB7 (in) "Eight Parallel Data Inputs. DB7 is the MSB of these eight bits.", 33 ~{CS} (in) "Active Low Chip Select Input. Used in conjunction with W\R\ to write data to the parallel interface, or with R\D\ to read back data from a DAC.", 34 ~{RD} (in) "Active Low Read Input. Used in conjunction with C\S\ to read data back from the internal DACs.", 35 ~{WR} (in) "Active Low Write Input. Used in conjunction with C\S\ to write data to the parallel interface.", 36 GAIN (in) "Gain Control Pin. Controls whether the output range from the DAC is 0 V to VREF or 0 V to 2 x VREF.", 37 ~{CLR} (in) "Asynchronous Active Low Control Input. Clears all input registers and DAC registers to zeros.", 38 ~{PD} (in) "Power-Down Pin. This active low control pin puts all DACs into power-down mode."

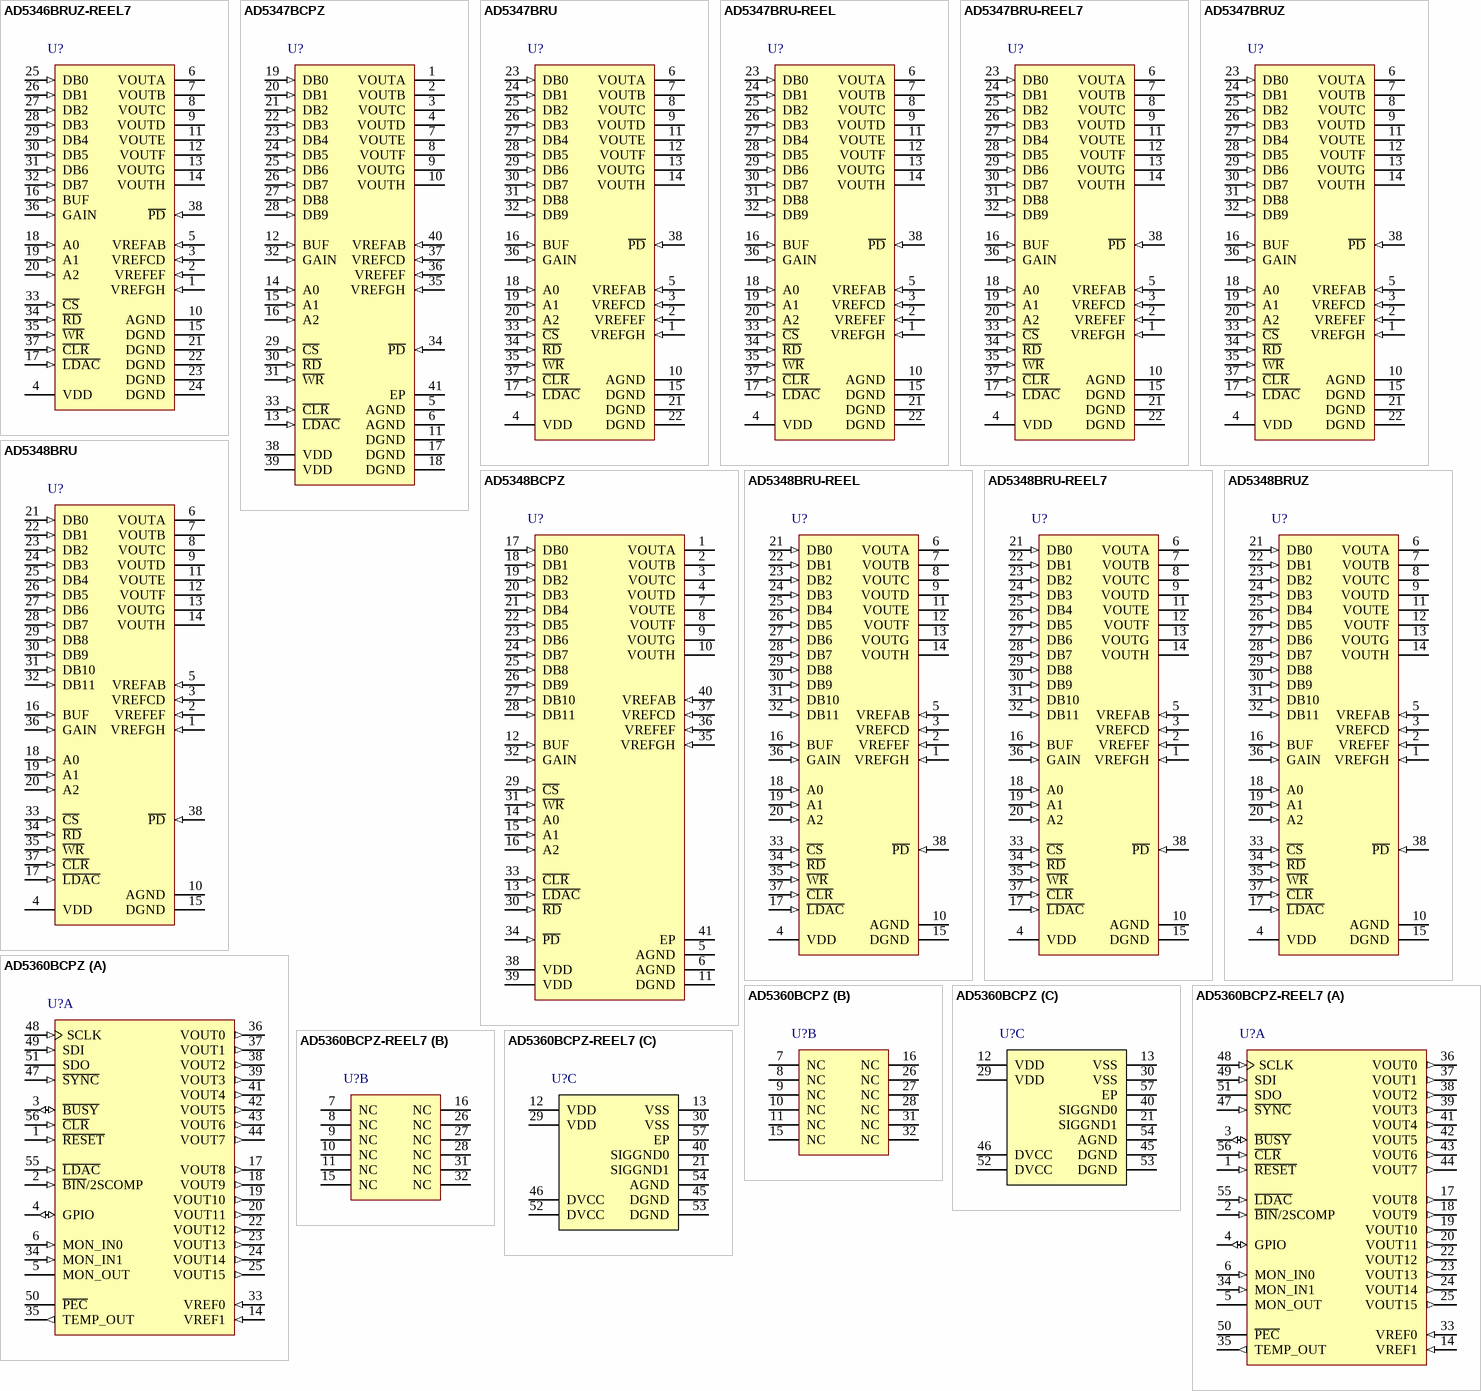
[diagram p18: symbols AD5346BRUZ-REEL7 to AD5360BCPZ-REEL7]